# EAGLE library part ADXL345 (library Zoli2_2015-01-28)
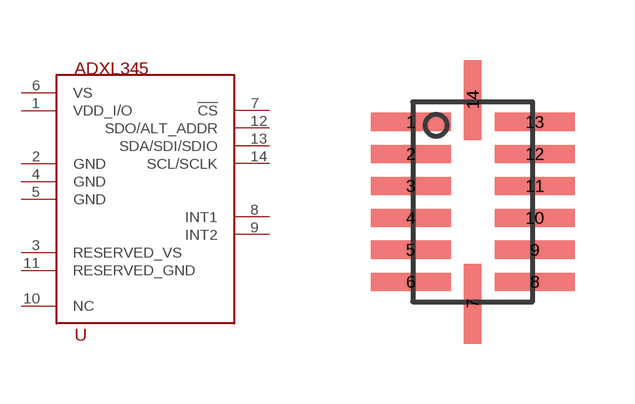
[diagram p74: symbol with the pads of LGA14; footprint LGA14]

Designator prefix -

## ADXL345  [LGA14]
1  VDD_I/O  pwr
2  GND  pwr
3  RESERVED_VS
4  GND  pwr
5  GND  pwr
6  VS  pwr
7  !CS  in
8  INT1  out
9  INT2  out
10  NC  nc
11  RESERVED_GND
12  SDO/ALT_ADDR  out
13  SDA/SDI/SDIO  in
14  SCL/SCLK  in

## Footprint LGA14 (pad centres in mm)
smd 2 x 0.45: 1 -1.55,2; 2 -1.55,1.2; 3 -1.55,0.4; 4 -1.55,-0.4; 5 -1.55,-1.2; 6 -1.55,-2; 8 1.55,-2; 9 1.55,-1.2; 10 1.55,-0.4; 11 1.55,0.4; 12 1.55,1.2; 13 1.55,2
smd 0.45 x 2: 7 0,-2.55; 14 0,2.55